# Altium schematic symbol library Passive-Cap.SchLib: 5 symbols
Pins are listed as number, name and electrical type; pins without a type are passive.

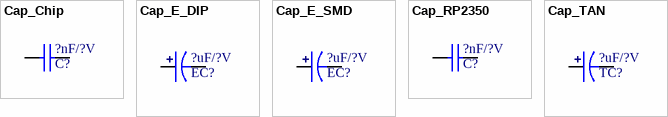
[diagram p0: symbols Cap_Chip to Cap_TAN]

## Cap_Chip
designator C?, comment ?nF/?V
贴片电容; Manufacturer_Name: SAMSUNG(三星); Manufacturer_Part_Number: ±10% /?V; Manufacturer_Name_1: YAGEO(国巨); Manufacturer_Part_Number_1: ±10% /?V
footprint C_0402 (Chip Capacitor, 2-Leads, Body 1.00x0.50mm, IPC Medium Density)
footprint C_0603 (Chip Capacitor, 2-Leads, Body 1.60x0.80mm, IPC Medium Density)
footprint C_0805 (Chip Capacitor, 2-Leads, Body 2.00x1.25mm, IPC Medium Density)
footprint C_1206 (Chip Capacitor, 2-Leads, Body 3.20x1.60mm, IPC Medium Density)
footprint C_1210 (Chip Capacitor, 2-Leads, Body 3.20x2.50mm, IPC Medium Density)
footprint C_0201 (Chip Capacitor, 2-Leads, Body 0.60x0.30mm, IPC Medium Density)
pins: 1, 2

## Cap_E_DIP
designator EC?, comment ?uF/?V
插件电解电容; Manufacturer_Name: *; Manufacturer_Part_Number: *
footprint DIP-EC1.5X4X8
footprint DIP-EC1.5X4X8-A
footprint DIP-EC2.0X5X11
footprint DIP-EC2.0X5X11-A
footprint DIP-EC2.5X5X11
footprint DIP-EC2.5X5X11-A
footprint DIP-EC2.5X6.3X11.2-A
footprint DIP-EC2.5X6.3X11.2
footprint DIP-EC3.5X8X11.5
footprint DIP-EC3.5X8X11.5-A
footprint DIP-EC5.0X10X12.5
footprint DIP-EC5.0X10X12.5-A
footprint DIP-EC5.0X10X16
footprint DIP-EC5.0X10X16-A
footprint DIP-EC5.0X10X20
footprint DIP-EC5.0X10X20-A
footprint DIP-EC5.0X12.5X20
footprint DIP-EC5.0X12.5X20-A
footprint DIP-EC5.0X12.5X25
footprint DIP-EC5.0X12.5X25-A
footprint DIP-EC5X11
footprint DIP-EC6.3X11
footprint DIP-EC7.5X16X25
footprint DIP-EC7.5X16X25-A
footprint DIP-EC7.5X16X31.5
footprint DIP-EC7.5X16X31.5-A
footprint DIP-EC7.5X18X35.5
footprint DIP-EC7.5X18X35.5-A
footprint DIP-EC8X12
footprint DIP-EC10X17
footprint DIP-EC10X22X31.5
footprint DIP-EC10X22X40
pins: 1, 2

## Cap_E_SMD
designator EC?, comment ?uF/?V
贴片电解电容; Manufacturer_Name: *; Manufacturer_Part_Number: *
footprint SMD-D4.0XL5.4 (Aluminum Electrolytic Capacitor, Body 4.30x4.30x5.40mm, IPC Medium Density)
footprint SMD-D4.0XL5.8 (Aluminum Electrolytic Capacitor, Body 4.30x4.30x5.80mm, IPC Medium Density)
footprint SMD-D5.0xL5.8 (Aluminum Electrolytic Capacitor, Body 5.30x5.30x5.80mm, IPC Medium Density)
footprint SMD-D5.0xL5.4 (Aluminum Electrolytic Capacitor, Body 5.30x5.30x5.40mm, IPC Medium Density)
footprint SMD-D5.0xL6.1 (Aluminum Electrolytic Capacitor, Body 5.30x5.30x6.1mm, IPC Medium Density)
footprint SMD-D5.0xL7.0 (Aluminum Electrolytic Capacitor, Body 5.30x5.30x7.0mm, IPC Medium Density)
footprint SMD-D6.3XL5.4 (Aluminum Electrolytic Capacitor, Body 6.60x6.60x5.40mm, IPC Medium Density)
footprint SMD-D6.3XL5.8 (Aluminum Electrolytic Capacitor, Body 6.60x6.60x5.80mm, IPC Medium Density)
footprint SMD-D6.3XL6.1 (Aluminum Electrolytic Capacitor, Body 6.60x6.60x6.1mm, IPC Medium Density)
footprint SMD-D6.3XL7.7 (Aluminum Electrolytic Capacitor, Body 6.60x6.60x7.70mm, IPC Medium Density)
footprint SMD-D6.3XL8.0 (Aluminum Electrolytic Capacitor, Body 6.60x6.60x8.00mm, IPC Medium Density)
footprint SMD-D8.0XL10.2 (Aluminum Electrolytic Capacitor, Body 8.30x8.30x10.20mm, IPC Medium Density)
footprint SMD-D8.0XL6.2 (Aluminum Electrolytic Capacitor, Body 8.30x8.30x6.20mm, IPC Medium Density)
footprint SMD-D10.0XL7.7 (Aluminum Electrolytic Capacitor, Body 10.30x10.30x7.70mm, IPC Medium Density)
footprint SMD-D10.0XL10.0 (Aluminum Electrolytic Capacitor, Body 10.30x10.30x10.00mm, IPC Medium Density)
footprint SMD-D10.0XL10.2 (Aluminum Electrolytic Capacitor, Body 10.30x10.30x10.20mm, IPC Medium Density)
footprint SMD-D10.0XL10.5 (Aluminum Electrolytic Capacitor, Body 10.30x10.30x10.50mm, IPC Medium Density)
footprint SMD-D12.5XL13.5 (Aluminum Electrolytic Capacitor, Body 13.00x13.00x13.50mm, IPC Medium Density)
footprint SMD-D12.5XL16.0 (Aluminum Electrolytic Capacitor, Body 13.00x13.00x16.00mm, IPC Medium Density)
footprint SMD-D16.0XL16.5 (Aluminum Electrolytic Capacitor, Body 17.00x17.00x16.50mm, IPC Medium Density)
footprint SMD-D16.0XL21.5 (Aluminum Electrolytic Capacitor, Body 17.00x17.00x21.50mm, IPC Medium Density)
pins: 1, 2

## Cap_RP2350
designator C?, comment ?nF/?V
贴片电容; Manufacturer_Name: SAMSUNG(三星); Manufacturer_Part_Number: ±10% /?V; Manufacturer_Name_1: YAGEO(国巨); Manufacturer_Part_Number_1: ±10% /?V
footprint C0402
pins: 1, 2

## Cap_TAN
designator TC?, comment ?uF/?V
钽电容; Manufacturer_Name: *; Manufacturer_Part_Number: *
footprint TAJ-A/3216
footprint TAJ-B/3528
footprint TAJ-C/6032
footprint TAJ-D/7343
pins: 1, 2